# Altium integrated library Integrated_Library1_MPU_6050.IntLib: 13 symbols
Pins are listed as number, name and electrical type; pins without a type are passive.

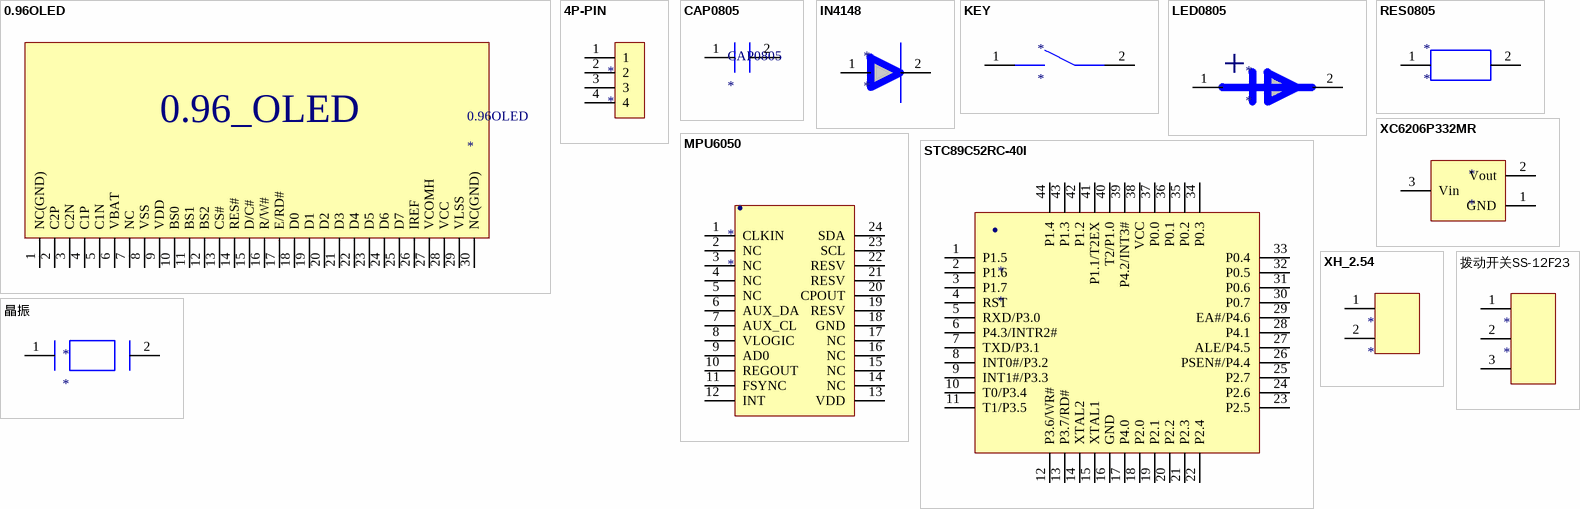
[diagram p0: symbols 0.96OLED to 晶振]

## 0.96OLED
designator 0.96OLED
footprint 0.96OLED
pins: 1 NC(GND), 2 C2P, 3 C2N, 4 C1P, 5 C1N, 6 VBAT, 7 NC, 8 VSS, 9 VDD, 10 BS0, 11 BS1, 12 BS2, 13 CS#, 14 RES#, 15 D/C#, 16 R/W#, 17 E/RD#, 18 D0, 19 D1, 20 D2, 21 D3, 22 D4, 23 D5, 24 D6, 25 D7, 26 IREF, 27 VCOMH, 28 VCC, 29 VLSS, 30 NC(GND)
text: 0.96_OLED

## 4P-PIN
designator *
footprint 4P_PIN
pins: 1, 2, 3, 4

## CAP0805
designator CAP0805
footprint CAP0805
pins: 1, 2

## IN4148
designator *
footprint IN4148
pins: 1, 2

## KEY
designator *
footprint KEY
pins: 1, 2

## LED0805
designator *
footprint LED0805
pins: 1, 2
text: +

## MPU6050
designator *
footprint MPU6050
pins: 1 CLKIN, 2 NC, 3 NC, 4 NC, 5 NC, 6 AUX_DA, 7 AUX_CL, 8 VLOGIC, 9 AD0, 10 REGOUT, 11 FSYNC, 12 INT, 13 VDD, 14 NC, 15 NC, 16 NC, 17 NC, 18 GND, 19 RESV, 20 CPOUT, 21 RESV, 22 RESV, 23 SCL, 24 SDA
text: .

## RES0805
designator *
footprint RES0805
pins: 1, 2

## STC89C52RC-40I
designator *
footprint STC89C52RC-40I
pins: 1 P1.5, 2 P1.6, 3 P1.7, 4 RST, 5 RXD/P3.0, 6 P4.3/INTR2#, 7 TXD/P3.1, 8 INT0#/P3.2, 9 INT1#/P3.3, 10 T0/P3.4, 11 T1/P3.5, 12 P3.6/WR#, 13 P3.7/RD#, 14 XTAL2, 15 XTAL1, 16 GND, 17 P4.0, 18 P2.0, 19 P2.1, 20 P2.2, 21 P2.3, 22 P2.4, 23 P2.5, 24 P2.6, 25 P2.7, 26 PSEN#/P4.4, 27 ALE/P4.5, 28 P4.1, 29 EA#/P4.6, 30 P0.7, 31 P0.6, 32 P0.5, 33 P0.4, 34 P0.3, 35 P0.2, 36 P0.1, 37 P0.0, 38 VCC, 39 P4.2/INT3#, 40 T2/P1.0, 41 P1.1/T2EX, 42 P1.2, 43 P1.3, 44 P1.4
text: .

## XC6206P332MR
designator *
footprint XC6206P332MR
pins: 1 GND, 2 Vout, 3 Vin

## XH_2.54
designator *
footprint XH_2.54
pins: 1, 2

## 拨动开关SS-12F23
designator *
footprint 拨动开关SS-12F23
pins: 1, 2, 3

## 晶振
designator *
footprint 晶振
pins: 1, 2